# EAGLE library part MEM2067-02-180-00-A_REVB (library MEM2067-02-180-00-A_REVB)
Micro SD Memory Card ConnectorSMT, Hinged, 1.80mm Profile
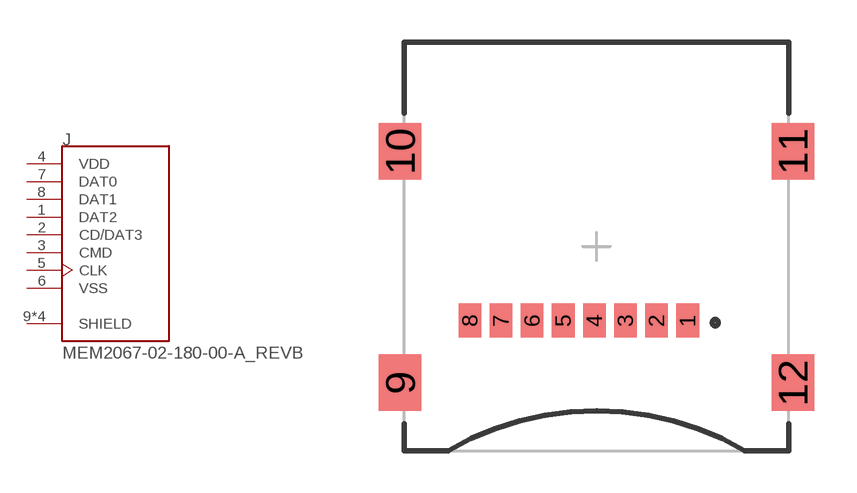
[diagram p0: symbol with the pads of GCT_MEM2067-02-180-00-A_REVB; footprint GCT_MEM2067-02-180-00-A_REVB]

Designator prefix J

## MEM2067-02-180-00-A_REVB (Availability: Unavailable; Description: MICRO SD HINGED, SMT, 1.80MM PRO; MF: Global Connector Technology; MP: MEM2067-02-180-00-A; Package: None; Price: None)  [GCT_MEM2067-02-180-00-A_REVB]
1  DAT2
2  CD/DAT3
3  CMD
4  VDD  pwr
5  CLK
6  VSS  pwr
7  DAT0
8  DAT1
9  SHIELD  pas
10  SHIELD  pas
11  SHIELD  pas
12  SHIELD  pas

## Footprint GCT_MEM2067-02-180-00-A_REVB (pad centres in mm)
smd 0.8 x 1.2: 1 3.225,-2.625; 2 2.125,-2.625; 3 1.025,-2.625; 4 -0.075,-2.625; 5 -1.175,-2.625; 6 -2.275,-2.625; 7 -3.375,-2.625; 8 -4.475,-2.625
smd 1.5 x 2: 9 -6.945,-4.825; 10 -6.945,3.375; 11 6.945,3.375; 12 6.945,-4.825